# Altium integrated library Altium_WS-PBTL (rev19a).IntLib: 2 symbols
Pins are listed as number, name and electrical type; pins without a type are passive.

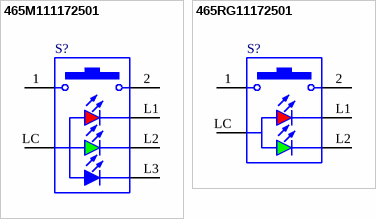
[diagram p0: symbols 465M111172501 to 465RG11172501]

## 465M111172501
designator S?
WS-PBTL Illuminated THT Push Button Switch, Red & Green & Blue; Part Number: 465M111172501; Operation Force: 200gf; Rated Voltage: 12VDC; Rated Current: 100mA; ComponentLink1Description: Manufacturer; ComponentLink1URL: http://www.we-online.de; ComponentLink2Description: Datasheet; ComponentLink2URL: https://katalog.we-online.com/em/datasheet/465M111172501.pdf; Published Date: September 2019; Publisher: Wurth Elektronik; Contact Material: Copper Alloy; Emitting Color: Red & Green & Blue; Mounting Technology: THT; Contact Plating: Gold; Packaging: ESD Tray; Size: 15x15mm; Operating Temperature: -40 to +85degC; Terminal Plating: Tin; Terminal Material: Copper Alloy
footprint 465M111172501
pins: 1, 2, L1, L2, L3, LC

## 465RG11172501
designator S?
WS-PBTL Illuminated THT Push Button Switch, Red & Green; Part Number: 465RG11172501; Operation Force: 200gf; Rated Voltage: 12VDC; Rated Current: 100mA; ComponentLink1Description: Manufacturer; ComponentLink1URL: http://www.we-online.de; ComponentLink2Description: Datasheet; ComponentLink2URL: https://katalog.we-online.com/em/datasheet/465RG11172501.pdf; Published Date: September 2019; Publisher: Wurth Elektronik; Contact Material: Brass; Emitting Color: Red & Green; Mounting Technology: THT; Contact Plating: Gold; Packaging: ESD Tray; Size: 15x15mm; Operating Temperature: -40 to +85degC; Terminal Plating: Tin; Terminal Material: Brass
footprint 465RG11172501
pins: 1, 2, L1, L2, LC